# Altium integrated library MAX17606AZT+.IntLib: 1 symbol
Pins are listed as number, name and electrical type; pins without a type are passive.

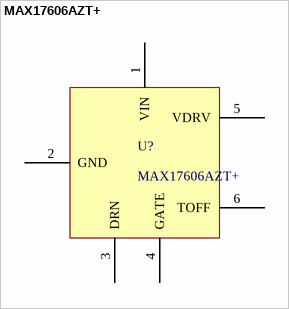
[diagram p0: symbol MAX17606AZT+]

## MAX17606AZT+
designator U?
footprint *SOT95P275X110-6N
pins: 1 VIN, 2 GND, 3 DRN, 4 GATE, 5 VDRV, 6 TOFF